# EAGLE library part LCD (library senior_design)
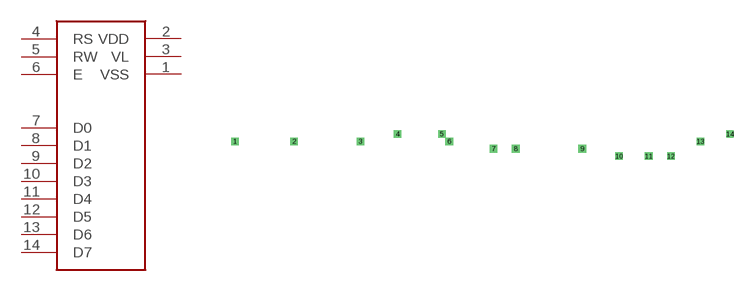
[diagram p1: symbol with the pads of LCDHEADER; footprint LCDHEADER]

Designator prefix -

## LCD  [LCDHEADER]
1  VSS
2  VDD
3  VL
4  RS
5  RW
6  E
7  D0
8  D1
9  D2
10  D3
11  D4
12  D5
13  D6
14  D7

## Footprint LCDHEADER (pad centres in mm)
drill 0.8 square: 1 -24.13,1.27; 2 -13.97,1.27; 3 -2.54,1.27; 4 3.81,2.54; 5 11.43,2.54; 6 12.7,1.27; 7 20.32,0; 8 24.13,0; 9 35.56,0; 10 41.91,-1.27; 11 46.99,-1.27; 12 50.8,-1.27; 13 55.88,1.27; 14 60.96,2.54